# Altium schematic symbol library basisSchematicLibrary.SchLib: 7 symbols
Pins are listed as number, name and electrical type; pins without a type are passive.

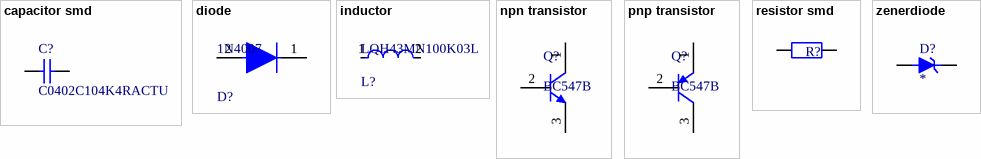
[diagram p0: symbols capacitor smd to zenerdiode]

## capacitor smd
designator C?, comment C0402C104K4RACTU
Manufacturer: Kemet; Part Number: C0402C104K4RACTU
footprint capacitor SMD (Chip caacitor, 2-Leads, Body 2.00x1.25mm)
pins: 1, 2
1 alternate drawing of the same symbol

## diode
designator D?, comment 1N4007
Rectifier diode 1000 V 1 A DO-41, ,; Manufacturer: Diotec; Max Surge Forward Current: 27A; Forward Current: 1A; Max Junction Temp: +175°C; Reverse Voltage: 1000V; Value: 15pF; Peak Reverse Current: 5uA; Category: Diode; Temperature Range Low: -50°C; Automotive: No; Temperature: -50°C to +175°C; Lead Free: Yes; ComponentLink2Description: Datasheet; Max Repetitive Reverse Voltage: 1000V; ComponentLink2URL: https://datasheet.octopart.com/1N4007-Diotec-datasheet-62346875.pdf; Manufacturer Part Number: 1N4007; Device Class L3: Rectifier Diodes; Height: 2.8mm; Octopart: https://octopart.com/1n4007-diotec-4040411; Package: 1N4007; Temperature Range High: +175°C; Device Class L1: Discrete Semiconductors; Device Class L2: Diodes; RoHS: TRUE; Capacitance: 15pF; Ipc Land Pattern Name: DIOAD888W100L520D280
footprint diode
pins: 1 C, 2 A

## inductor
designator L?, comment LQH43MN100K03L
Wire Wound Ferrite Inductor for General Circuits 10μH ±10% 0.56Ω 400mA 1812; Inductance: 10uH; Series Resistance: 560mR; Shielding: Unshielded; Q Factor: 35; Self Resonant Frequency: 23MHz; Current: 360mA; Test Frequency: 1MHz; Height: 2.6mm; Min Operating Temperature: -40°C; Termination: SMD/SMT; Radiation Hardening: No; Packaging: Tape and Reel; Inductance Tolerance: 10%; DC Current: 400mA; Tolerance: 10%; DC Resistance (DCR): 560mR; Military Standard: Not; Case/Package: 1812; Max DC Current: 400mA; Case Code (Metric): 4532; Width: 3.2mm; Depth: 3.4mm; Package Quantity: 500; Current Rating: 400mA; Lead Free: Lead Free; Weight: 0.004586oz; Max Operating Temperature: 85°C; Core Material: Ferrite; Frequency: 23MHz; Length: 4.5mm; REACH SVHC: No SVHC; Mount: Surface Mount; Case Code (Imperial): 1812
footprint inductor
pins: 1, 2

## npn transistor
designator Q?, comment BC547B
Amplifier Transistor, NPN Silicon, 3-Pin TO-92, Bulk Box; Manufacturer: On Semiconductor; IC Continuous (A): 0.1; fT Min (MHz): 150; DatasheetVersion: Rev. 7; ComponentLink1URL: http://www.onsemi.com/; Polarity: NPN; RoHS: FALSE; ComponentLink1Description: Manufacturer URL; Packing: Bulk Box; PackageDescription: 3-Pin Transistor Outline, Body 4.825 x 3.685 mm, Pitch 1.27 mm; ComponentLink3URL: http://www.onsemi.cn/pub_link/Collateral/2N6426-D.PDF; ComponentLink2Description: Datasheet; PackageVersion: Rev. AM; PackageReference: TO-92-3-29-11_AM_SL; ComponentLink3Description: Package Specification; Mounting Technology: Through Hole; PartNumber: BC547B; ComponentLink2URL: http://www.onsemi.com/pub_link/Collateral/BC546-D.PDF
footprint transistor (TO, 3-Leads, Body Dia 4.7mm, Pitch 1.27mm)
pins: 1 C, 2 B, 3 E

## pnp transistor
designator Q?, comment BC547B
Amplifier Transistor, NPN Silicon, 3-Pin TO-92, Bulk Box; Manufacturer: On Semiconductor; IC Continuous (A): 0.1; fT Min (MHz): 150; DatasheetVersion: Rev. 7; ComponentLink1URL: http://www.onsemi.com/; Polarity: NPN; RoHS: FALSE; ComponentLink1Description: Manufacturer URL; Packing: Bulk Box; PackageDescription: 3-Pin Transistor Outline, Body 4.825 x 3.685 mm, Pitch 1.27 mm; ComponentLink3URL: http://www.onsemi.cn/pub_link/Collateral/2N6426-D.PDF; ComponentLink2Description: Datasheet; PackageVersion: Rev. AM; PackageReference: TO-92-3-29-11_AM_SL; ComponentLink3Description: Package Specification; Mounting Technology: Through Hole; PartNumber: BC547B; ComponentLink2URL: http://www.onsemi.com/pub_link/Collateral/BC546-D.PDF
footprint transistor (TO, 3-Leads, Body Dia 4.7mm, Pitch 1.27mm)
pins: 1 C, 2 B, 3 E

## resistor smd
designator R?
Manufacturer: Vishay Dale; Part Number: CRCW08050000Z0EA
footprint resistor smd (Chip Resistor, 2-Leads, Body 2.00x1.25mm, IPC Medium Density)
pins: 1, 2
1 alternate drawing of the same symbol

## zenerdiode
designator D?
1N4764A Series 1.3 W 100 V 200 mA 5 % Tolerance Through Hole Zener Diode - DO-41; MF: Vishay Semiconductor; MP: 1N4764A-TR; Package: DO-41 Vishay Semiconductor; Price: None; Check_prices: https://www.snapeda.com/parts/1N4764A-TR/Vishay+Semiconductor+Diodes+Division/view-part/?ref=eda; Value: *; SnapEDA_Link: https://www.snapeda.com/parts/1N4764A-TR/Vishay+Semiconductor+Diodes+Division/view-part/?ref=snap; Availability: In Stock; Purchase-URL: https://pricing.snapeda.com/search?q=1N4764A-TR&ref=eda
footprint zenerdiode
pins: A, C K